# Altium schematic symbol library Trimming Potentiometer.Schlib: 1 symbol
Pins are listed as number, name and electrical type; pins without a type are passive.

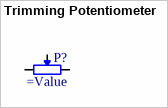
[diagram p0: symbol Trimming Potentiometer]

## Trimming Potentiometer
designator P?
Trimming Potentiometer
pins: 1 CCW, 2 W, 3 CW